# Altium integrated library TPD4E1B06DCKR.IntLib: 1 symbol
Pins are listed as number, name and electrical type; pins without a type are passive.

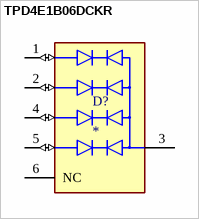
[diagram p0: symbol TPD4E1B06DCKR]

## TPD4E1B06DCKR
designator D?
Quad 0.7-pF, Â±5.5-V, Â±12-kV ESD protection diode with 0.5-nA max leakage in SOT & SC70 packages; MF: Texas Instruments; MP: TPD4E1B06DCKR; SnapEDA_Link: https://www.snapeda.com/parts/TPD4E1B06DCKR/Texas+Instruments/view-part/?ref=snap; Package: SOT-SC70-6 Texas Instruments; Value: *; Check_prices: https://www.snapeda.com/parts/TPD4E1B06DCKR/Texas+Instruments/view-part/?ref=eda
footprint TVS_TPD4E1B06DCKR
pins: 1 IO1 (io), 2 IO2 (io), 3 GND (power), 4 IO3 (io), 5 IO4 (io), 6 NC